# Altium footprint library WS-TASV SMD Tact Switch 6X6 mm.PcbLib: 27 footprints (part 2 of 2)
Each footprint in its own frame and in the unit in brackets; x right, y up, seen from the top. Pads: shape width x height; smd on the part's side, far side on the other; paste and mask are expansions set on the pad; w line width, h text height; cw(c..) or ccw(c..) is an arc to the next point about the centre after c.
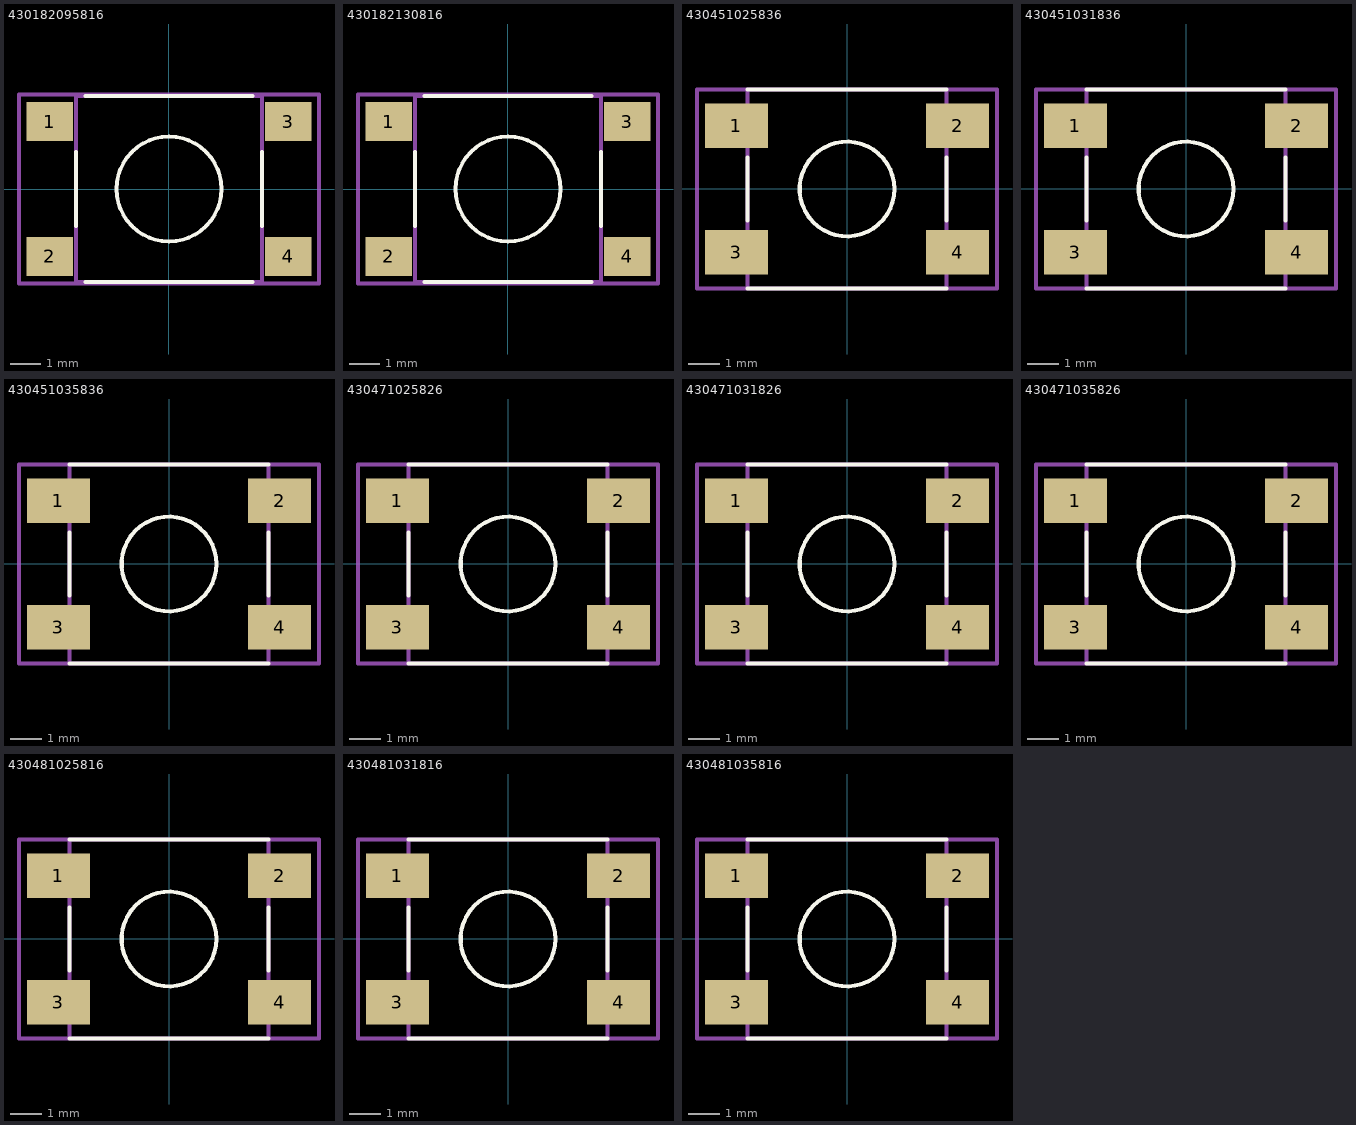
[diagram p1: the footprints below, top view; thin cyan lines are the x and y axes]

## 430182095816 [mm] "6*6mm vertical type, SMD, height 9.5mm, black actuator, 160gf, T&R"
height 9
pads (4):
  rect 1.55x1.3 smd: 1(-3.975,2.25) 2(-3.975,-2.25) 3(3.975,2.25) 4(3.975,-2.25)
Top Overlay:
  circle w0.127: c0,0 r1.75
  lines w0.127: -3.1,-1.24 -3.1,1.24 ; -2.79,-3.1 2.79,-3.1 ; -2.79,3.1 2.79,3.1 ; 3.1,-1.24 3.1,1.24
Mechanical 13:
  lines w0.127: -3.1,-3.1 -3.1,3.1 3.1,3.1 3.1,-3.1 -3.1,-3.1
Mechanical 15:
  lines w0.127: -5,-3.15 5,-3.15 5,3.15 -5,3.15 -5,-3.15
3D body "4301x20958x6.stp": height 9, standoff -0.01, extent -4.5,-3.1 4.5,3.1

## 430182130816 [mm] "6*6mm vertical type, SMD, height 13.0mm, black actuator, 160gf, T&R"
height 13
pads (4):
  rect 1.55x1.3 smd: 1(-3.975,2.25) 2(-3.975,-2.25) 3(3.975,2.25) 4(3.975,-2.25)
Top Overlay:
  circle w0.127: c0,0 r1.75
  lines w0.127: -3.1,-1.24 -3.1,1.24 ; -2.79,-3.1 2.79,-3.1 ; -2.79,3.1 2.79,3.1 ; 3.1,-1.24 3.1,1.24
Mechanical 13:
  lines w0.127: -3.1,-3.1 3.1,-3.1 3.1,3.1 -3.1,3.1 -3.1,-3.1
Mechanical 15:
  lines w0.127: -5,-3.15 -5,3.15 5,3.15 5,-3.15 -5,-3.15
3D body "4301x21308x6.stp": height 13, standoff -0.01, extent -4.5,-3.1 4.5,3.1

## 430451025836 [mm] "6*6mm vertical type, SMD, height 2.5mm, salmon actuator, 360gf, T&R"
height 2.5
pads (4):
  rect 2x1.4 smd: 1(-3.5,2) 2(3.5,2) 3(-3.5,-2) 4(3.5,-2)
Top Overlay:
  circle w0.127: c0,0 r1.5
  lines w0.127: -3.15,-3.15 3.15,-3.15 ; -3.15,-1 -3.15,1 ; -3.15,3.15 1.3,3.15 3.15,3.15 ; 3.15,-1 3.15,1
Mechanical 13:
  lines w0.127: -3.15,-3.15 -3.15,3.15 3.15,3.15 3.15,-3.15 -3.15,-3.15
Mechanical 15:
  lines w0.127: -4.75,-3.15 4.75,-3.15 4.75,3.15 -4.75,3.15 -4.75,-3.15
3D body "4304x10258x6.stp": height 2.5, standoff -0.01, extent -4,-3.1 4,3.1

## 430451031836 [mm] "6*6mm vertical type,SMD, height 3.1mm, salmon actuator, 360gf, T&R"
height 3.1
pads (4):
  rect 2x1.4 smd: 1(-3.5,2) 2(3.5,2) 3(-3.5,-2) 4(3.5,-2)
Top Overlay:
  circle w0.127: c0,0 r1.5
  lines w0.127: -3.15,-3.15 3.15,-3.15 ; -3.15,-1 -3.15,1 ; -3.15,3.15 1.3,3.15 3.15,3.15 ; 3.15,-1 3.15,1
Mechanical 13:
  lines w0.127: -3.15,-3.15 3.15,-3.15 3.15,3.15 -3.15,3.15 -3.15,-3.15
Mechanical 15:
  lines w0.127: -4.75,-3.15 -4.75,3.15 4.75,3.15 4.75,-3.15 -4.75,-3.15
3D body "4304x10318x6.stp": height 3.1, standoff -0.01, extent -4,-3.1 4,3.1

## 430451035836 [mm] "6*6mm vertical type,SMD,  height 3.5mm, salmon actuator, 360gf, T&R"
height 3.5
pads (4):
  rect 2x1.4 smd: 1(-3.5,2) 2(3.5,2) 3(-3.5,-2) 4(3.5,-2)
Top Overlay:
  circle w0.127: c0,0 r1.5
  lines w0.127: -3.15,-3.15 3.15,-3.15 ; -3.15,-1 -3.15,1 ; -3.15,3.15 1.3,3.15 3.15,3.15 ; 3.15,-1 3.15,1
Mechanical 13:
  lines w0.127: -3.15,-3.15 -3.15,3.15 3.15,3.15 3.15,-3.15 -3.15,-3.15
Mechanical 15:
  lines w0.127: -4.75,-3.15 4.75,-3.15 4.75,3.15 -4.75,3.15 -4.75,-3.15
3D body "4304x10358x6.stp": height 3.5, standoff -0.01, extent -4,-3.1 4,3.1

## 430471025826 [mm] "6*6mm vertical type,SMD, height 2.5mm, white actuator, 260gf, T&R"
height 2.5
pads (4):
  rect 2x1.4 smd: 1(-3.5,2) 2(3.5,2) 3(-3.5,-2) 4(3.5,-2)
Top Overlay:
  circle w0.127: c0,0 r1.5
  lines w0.127: -3.15,-3.15 3.15,-3.15 ; -3.15,-1 -3.15,1 ; -3.15,3.15 1.3,3.15 3.15,3.15 ; 3.15,-1 3.15,1
Mechanical 13:
  lines w0.127: -3.15,-3.15 -3.15,3.15 3.15,3.15 3.15,-3.15 -3.15,-3.15
Mechanical 15:
  lines w0.127: -4.75,-3.15 4.75,-3.15 4.75,3.15 -4.75,3.15 -4.75,-3.15
3D body "4304x10258x6.stp": height 2.5, standoff -0.01, extent -4,-3.1 4,3.1

## 430471031826 [mm] "6*6mm vertical type,SMD, height 3.1mm, white actuator, 260gf, T&R"
height 3.1
pads (4):
  rect 2x1.4 smd: 1(-3.5,2) 2(3.5,2) 3(-3.5,-2) 4(3.5,-2)
Top Overlay:
  circle w0.127: c0,0 r1.5
  lines w0.127: -3.15,-3.15 3.15,-3.15 ; -3.15,-1 -3.15,1 ; -3.15,3.15 1.3,3.15 3.15,3.15 ; 3.15,-1 3.15,1
Mechanical 13:
  lines w0.127: -3.15,-3.15 -3.15,3.15 3.15,3.15 3.15,-3.15 -3.15,-3.15
Mechanical 15:
  lines w0.127: -4.75,-3.15 4.75,-3.15 4.75,3.15 -4.75,3.15 -4.75,-3.15
3D body "4304x10318x6.stp": height 3.1, standoff -0.01, extent -4,-3.1 4,3.1

## 430471035826 [mm] "6*6mm vertical type,SMD,  height 3.5mm, white actuator, 260gf, T&R"
height 3.5
pads (4):
  rect 2x1.4 smd: 1(-3.5,2) 2(3.5,2) 3(-3.5,-2) 4(3.5,-2)
Top Overlay:
  circle w0.127: c0,0 r1.5
  lines w0.127: -3.15,-3.15 3.15,-3.15 ; -3.15,-1 -3.15,1 ; -3.15,3.15 1.3,3.15 3.15,3.15 ; 3.15,-1 3.15,1
Mechanical 13:
  lines w0.127: -3.15,-3.15 -3.15,3.15 3.15,3.15 3.15,-3.15 -3.15,-3.15
Mechanical 15:
  lines w0.127: -4.75,-3.15 4.75,-3.15 4.75,3.15 -4.75,3.15 -4.75,-3.15
3D body "4304x10358x6.stp": height 3.5, standoff -0.01, extent -4,-3.1 4,3.1

## 430481025816 [mm] "6*6mm vertical type,SMD, height 2.5mm, black actuator, 160gf, T&R"
height 2.5
pads (4):
  rect 2x1.4 smd: 1(-3.5,2) 2(3.5,2) 3(-3.5,-2) 4(3.5,-2)
Top Overlay:
  circle w0.127: c0,0 r1.5
  lines w0.127: -3.15,-3.15 3.15,-3.15 ; -3.15,-1 -3.15,1 ; -3.15,3.15 1.3,3.15 3.15,3.15 ; 3.15,-1 3.15,1
Mechanical 13:
  lines w0.127: -3.15,-3.15 3.15,-3.15 3.15,3.15 -3.15,3.15 -3.15,-3.15
Mechanical 15:
  lines w0.127: -4.75,-3.15 -4.75,3.15 4.75,3.15 4.75,-3.15 -4.75,-3.15
3D body "4304x10258x6.stp": height 2.5, standoff -0.01, extent -4,-3.1 4,3.1

## 430481031816 [mm] "6*6mm vertical type,SMD, height 3.1mm, black actuator, 160gf, T&R"
height 3.1
pads (4):
  rect 2x1.4 smd: 1(-3.5,2) 2(3.5,2) 3(-3.5,-2) 4(3.5,-2)
Top Overlay:
  circle w0.127: c0,0 r1.5
  lines w0.127: -3.15,-3.15 3.15,-3.15 ; -3.15,-1 -3.15,1 ; -3.15,3.15 1.3,3.15 3.15,3.15 ; 3.15,-1 3.15,1
Mechanical 13:
  lines w0.127: -3.15,-3.15 3.15,-3.15 3.15,3.15 -3.15,3.15 -3.15,-3.15
Mechanical 15:
  lines w0.127: -4.75,-3.15 -4.75,3.15 4.75,3.15 4.75,-3.15 -4.75,-3.15
3D body "4304x10318x6.stp": height 3.1, standoff -0.01, extent -4,-3.1 4,3.1

## 430481035816 [mm] "6*6mm vertical type,SMD, height 3.5mm, black actuator, 160gf, T&R"
height 3.5
pads (4):
  rect 2x1.4 smd: 1(-3.5,2) 2(3.5,2) 3(-3.5,-2) 4(3.5,-2)
Top Overlay:
  circle w0.127: c0,0 r1.5
  lines w0.127: -3.15,-3.15 3.15,-3.15 ; -3.15,-1 -3.15,1 ; -3.15,3.15 1.3,3.15 3.15,3.15 ; 3.15,-1 3.15,1
Mechanical 13:
  lines w0.127: -3.15,-3.15 -3.15,3.15 3.15,3.15 3.15,-3.15 -3.15,-3.15
Mechanical 15:
  lines w0.127: -4.75,-3.15 4.75,-3.15 4.75,3.15 -4.75,3.15 -4.75,-3.15
3D body "4304x10358x6.stp": height 3.5, standoff -0.01, extent -4,-3.1 4,3.1